# Altium schematic symbol library STD11N60DM2.Schlib: 1 symbol
Pins are listed as number, name and electrical type; pins without a type are passive.

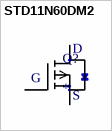
[diagram p0: symbol STD11N60DM2]

## STD11N60DM2
designator Q?
pins: D, G, S